# Altium footprint library AD9116BCPZ.PcbLib: 3 footprints
Each footprint in its own frame and in the unit in brackets; x right, y up, seen from the top. Pads: shape width x height; smd on the part's side, far side on the other; paste and mask are expansions set on the pad; w line width, h text height; cw(c..) or ccw(c..) is an arc to the next point about the centre after c.
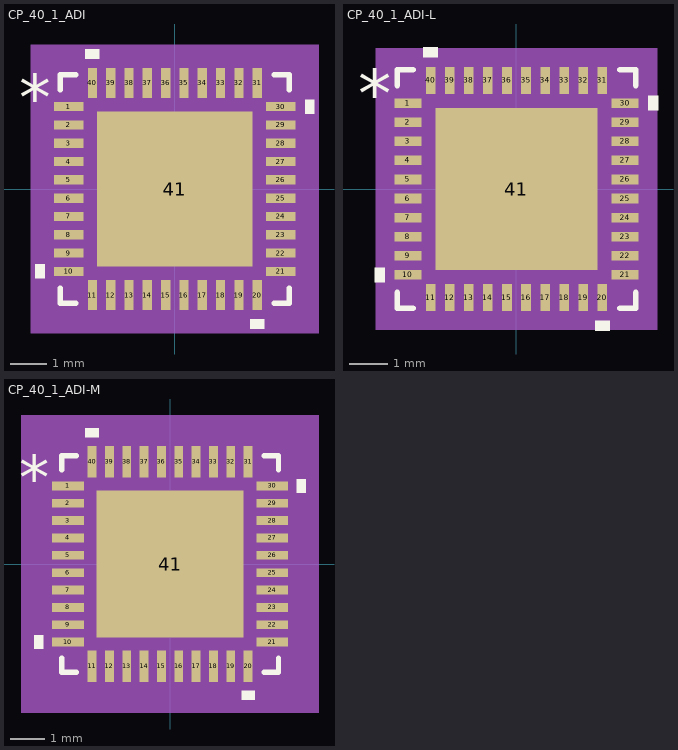
[diagram p0: the footprints below, top view; thin cyan lines are the x and y axes]

## CP_40_1_ADI [mil]
pads (41):
  rect 32x10 smd paste+0 mask+0: 1(-114,88.58) 2(-114,68.9) 3(-114,49.21) 4(-114,29.53) 5(-114,9.84) 6(-114,-9.84) 7(-114,-29.53) 8(-114,-49.21) 9(-114,-68.9) 10(-114,-88.58) 21(114,-88.58) 22(114,-68.9) 23(114,-49.21) 24(114,-29.53) 25(114,-9.84) 26(114,9.84) 27(114,29.53) 28(114,49.21) 29(114,68.9) 30(114,88.58)
  rect 10x32 smd paste+0 mask+0: 11(-88.58,-114) 12(-68.9,-114) 13(-49.21,-114) 14(-29.53,-114) 15(-9.84,-114) 16(9.84,-114) 17(29.53,-114) 18(49.21,-114) 19(68.9,-114) 20(88.58,-114) 31(88.58,114) 32(68.9,114) 33(49.21,114) 34(29.53,114) 35(9.84,114) 36(-9.84,114) 37(-29.53,114) 38(-49.21,114) 39(-68.9,114) 40(-88.58,114)
  rect 167x167 smd paste-83 mask+0: 41(0,0)
Top Overlay:
  region: -140,-81.08 -150,-81.08 -150,-96.08 -140,-96.08
  region: 96.08,-140 81.08,-140 81.08,-150 96.08,-150
  region: 140,96.08 150,96.08 150,81.08 140,81.08
  region: -81.08,140 -96.08,140 -96.08,150 -81.08,150
  lines w6: -123,-106.68 -123,-123 -106.68,-123 ; -123,106.68 -123,123 -106.68,123 ; 106.68,-123 123,-123 123,-106.68 ; 106.68,123 123,123 123,106.68
  text "*" at -167.5,73.43 h50
Top Paste:
  region: -31.77,79.56 -79.56,79.56 -79.56,31.77 -31.77,31.77
  region: -31.77,23.9 -79.56,23.9 -79.56,-23.9 -31.77,-23.9
  region: -31.77,-31.77 -79.56,-31.77 -79.56,-79.56 -31.77,-79.56
  region: 23.9,79.56 -23.9,79.56 -23.9,31.77 23.9,31.77
  region: 23.9,23.9 -23.9,23.9 -23.9,-23.9 23.9,-23.9
  region: 23.9,-31.77 -23.9,-31.77 -23.9,-79.56 23.9,-79.56
  region: 79.56,79.56 31.77,79.56 31.77,31.77 79.56,31.77
  region: 79.56,23.9 31.77,23.9 31.77,-23.9 79.56,-23.9
  region: 79.56,-31.77 31.77,-31.77 31.77,-79.56 79.56,-79.56
Mechanical 5:
  region: 155,-155 -155,-155 -155,155 155,155
Mechanical 13:
  drawing of 169 lines, arcs and shapes, not listed
  text "*" at -110.5,73.43 h50
Mechanical 15:
  region: -103.58,-128 -128,-128 -128,-103.58 -140,-103.58 -140,103.58 -128,103.58 -128,128 -103.58,128 -103.58,140 103.58,140 103.58,128 128,128 128,103.58 140,103.58 140,-103.58 128,-103.58 128,-128 103.58,-128 103.58,-140 -103.58,-140
  lines w6: -140,-103.58 -128,-103.58 -128,-128 -103.58,-128 -103.58,-140 103.58,-140 103.58,-128 128,-128 128,-103.58 140,-103.58 140,103.58 128,103.58 128,128 103.58,128 103.58,140 -103.58,140 -103.58,128 -128,128 -128,103.58 -140,103.58 -140,-103.58
3D body "CP_40_1_ADI.step": height 39.09, standoff 0, extent -117.99,-117.99 117.99,117.99

## CP_40_1_ADI-L [mil]
pads (41):
  rect 28x10 smd paste+0 mask+0: 1(-112,88.58) 2(-112,68.9) 3(-112,49.21) 4(-112,29.53) 5(-112,9.84) 6(-112,-9.84) 7(-112,-29.53) 8(-112,-49.21) 9(-112,-68.9) 10(-112,-88.58) 21(112,-88.58) 22(112,-68.9) 23(112,-49.21) 24(112,-29.53) 25(112,-9.84) 26(112,9.84) 27(112,29.53) 28(112,49.21) 29(112,68.9) 30(112,88.58)
  rect 10x28 smd paste+0 mask+0: 11(-88.58,-112) 12(-68.9,-112) 13(-49.21,-112) 14(-29.53,-112) 15(-9.84,-112) 16(9.84,-112) 17(29.53,-112) 18(49.21,-112) 19(68.9,-112) 20(88.58,-112) 31(88.58,112) 32(68.9,112) 33(49.21,112) 34(29.53,112) 35(9.84,112) 36(-9.84,112) 37(-29.53,112) 38(-49.21,112) 39(-68.9,112) 40(-88.58,112)
  rect 167x167 smd paste-83 mask+0: 41(0,0)
Top Overlay:
  region: -136,-81.08 -146,-81.08 -146,-96.08 -136,-96.08
  region: 96.08,-136 81.08,-136 81.08,-146 96.08,-146
  region: 136,96.08 146,96.08 146,81.08 136,81.08
  region: -81.08,136 -96.08,136 -96.08,146 -81.08,146
  lines w6: -123,-106.68 -123,-123 -106.68,-123 ; -123,106.68 -123,123 -106.68,123 ; 106.68,-123 123,-123 123,-106.68 ; 106.68,123 123,123 123,106.68
  text "*" at -163.5,73.43 h50
Top Paste:
  region: -31.77,79.56 -79.56,79.56 -79.56,31.77 -31.77,31.77
  region: -31.77,23.9 -79.56,23.9 -79.56,-23.9 -31.77,-23.9
  region: -31.77,-31.77 -79.56,-31.77 -79.56,-79.56 -31.77,-79.56
  region: 23.9,79.56 -23.9,79.56 -23.9,31.77 23.9,31.77
  region: 23.9,23.9 -23.9,23.9 -23.9,-23.9 23.9,-23.9
  region: 23.9,-31.77 -23.9,-31.77 -23.9,-79.56 23.9,-79.56
  region: 79.56,79.56 31.77,79.56 31.77,31.77 79.56,31.77
  region: 79.56,23.9 31.77,23.9 31.77,-23.9 79.56,-23.9
  region: 79.56,-31.77 31.77,-31.77 31.77,-79.56 79.56,-79.56
Mechanical 5:
  region: 145,-145 -145,-145 -145,145 145,145
Mechanical 13:
  drawing of 169 lines, arcs and shapes, not listed
  text "*" at -110.5,73.43 h50
Mechanical 15:
  region: -97.58,-122 -122,-122 -122,-97.58 -130,-97.58 -130,97.58 -122,97.58 -122,122 -97.58,122 -97.58,130 97.58,130 97.58,122 122,122 122,97.58 130,97.58 130,-97.58 122,-97.58 122,-122 97.58,-122 97.58,-130 -97.58,-130
  lines w6: -130,-97.58 -122,-97.58 -122,-122 -97.58,-122 -97.58,-130 97.58,-130 97.58,-122 122,-122 122,-97.58 130,-97.58 130,97.58 122,97.58 122,122 97.58,122 97.58,130 -97.58,130 -97.58,122 -122,122 -122,97.58 -130,97.58 -130,-97.58
3D body "CP_40_1_ADI.step": height 39.09, standoff 0, extent -117.99,-117.99 117.99,117.99

## CP_40_1_ADI-M [mil]
pads (41):
  rect 36x10 smd paste+0 mask+0: 1(-116,88.58) 2(-116,68.9) 3(-116,49.21) 4(-116,29.53) 5(-116,9.84) 6(-116,-9.84) 7(-116,-29.53) 8(-116,-49.21) 9(-116,-68.9) 10(-116,-88.58) 21(116,-88.58) 22(116,-68.9) 23(116,-49.21) 24(116,-29.53) 25(116,-9.84) 26(116,9.84) 27(116,29.53) 28(116,49.21) 29(116,68.9) 30(116,88.58)
  rect 10x36 smd paste+0 mask+0: 11(-88.58,-116) 12(-68.9,-116) 13(-49.21,-116) 14(-29.53,-116) 15(-9.84,-116) 16(9.84,-116) 17(29.53,-116) 18(49.21,-116) 19(68.9,-116) 20(88.58,-116) 31(88.58,116) 32(68.9,116) 33(49.21,116) 34(29.53,116) 35(9.84,116) 36(-9.84,116) 37(-29.53,116) 38(-49.21,116) 39(-68.9,116) 40(-88.58,116)
  rect 167x167 smd paste-83 mask+0: 41(0,0)
Top Overlay:
  region: -144,-81.08 -154,-81.08 -154,-96.08 -144,-96.08
  region: 96.08,-144 81.08,-144 81.08,-154 96.08,-154
  region: 144,96.08 154,96.08 154,81.08 144,81.08
  region: -81.08,144 -96.08,144 -96.08,154 -81.08,154
  lines w6: -123,-106.68 -123,-123 -106.68,-123 ; -123,106.68 -123,123 -106.68,123 ; 106.68,-123 123,-123 123,-106.68 ; 106.68,123 123,123 123,106.68
  text "*" at -171.5,73.43 h50
Top Paste:
  region: -31.77,79.56 -79.56,79.56 -79.56,31.77 -31.77,31.77
  region: -31.77,23.9 -79.56,23.9 -79.56,-23.9 -31.77,-23.9
  region: -31.77,-31.77 -79.56,-31.77 -79.56,-79.56 -31.77,-79.56
  region: 23.9,79.56 -23.9,79.56 -23.9,31.77 23.9,31.77
  region: 23.9,23.9 -23.9,23.9 -23.9,-23.9 23.9,-23.9
  region: 23.9,-31.77 -23.9,-31.77 -23.9,-79.56 23.9,-79.56
  region: 79.56,79.56 31.77,79.56 31.77,31.77 79.56,31.77
  region: 79.56,23.9 31.77,23.9 31.77,-23.9 79.56,-23.9
  region: 79.56,-31.77 31.77,-31.77 31.77,-79.56 79.56,-79.56
Mechanical 5:
  region: 169,-169 -169,-169 -169,169 169,169
Mechanical 13:
  drawing of 169 lines, arcs and shapes, not listed
  text "*" at -110.5,73.43 h50
Mechanical 15:
  region: -113.58,-138 -138,-138 -138,-113.58 -154,-113.58 -154,113.58 -138,113.58 -138,138 -113.58,138 -113.58,154 113.58,154 113.58,138 138,138 138,113.58 154,113.58 154,-113.58 138,-113.58 138,-138 113.58,-138 113.58,-154 -113.58,-154
  lines w6: -154,-113.58 -138,-113.58 -138,-138 -113.58,-138 -113.58,-154 113.58,-154 113.58,-138 138,-138 138,-113.58 154,-113.58 154,113.58 138,113.58 138,138 113.58,138 113.58,154 -113.58,154 -113.58,138 -138,138 -138,113.58 -154,113.58 -154,-113.58
3D body "CP_40_1_ADI.step": height 39.09, standoff 0, extent -117.99,-117.99 117.99,117.99